# EAGLE library part DA10XJC (library digAudio_SNES)
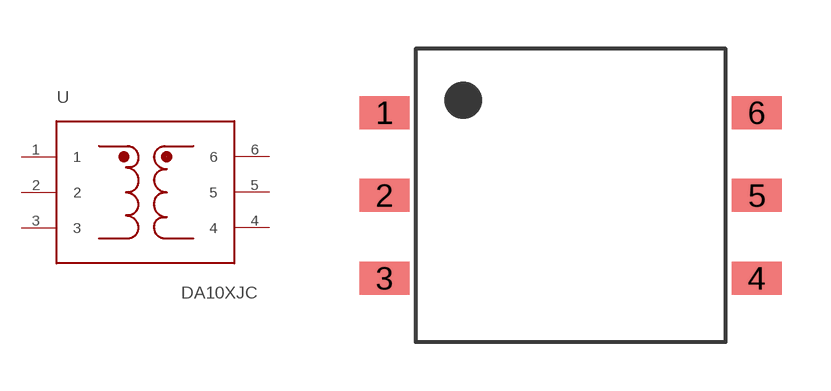
[diagram p1: symbol with the pads of DA101JC; footprint DA101JC]

Designator prefix -

## DA10XJC  [DA101JC]
1  1
2  2
3  3
4  4
5  5
6  6

## Footprint DA101JC (pad centres in mm)
smd 1.524 x 1.016: 1 -5.715,2.54; 2 -5.715,0; 3 -5.715,-2.54; 4 5.715,-2.54; 5 5.715,0; 6 5.715,2.54